# EAGLE library part CA56 (library CA56-12GWA)
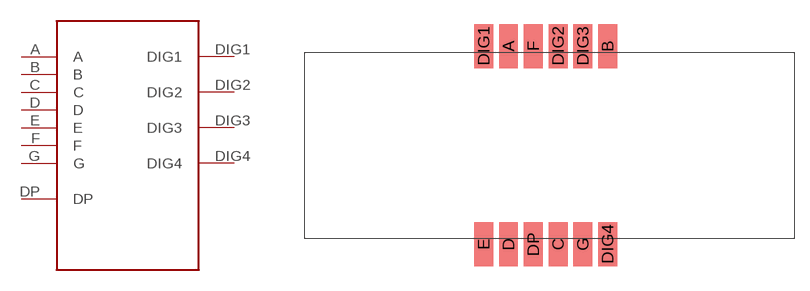
[diagram p0: symbol with the pads of CA56; footprint CA56]

Designator prefix -

## CA56  [CA56]
A  A
B  B
C  C
D  D
DIG1  DIG1
DIG2  DIG2
DIG3  DIG3
DIG4  DIG4
DP  DP
E  E
F  F
G  G

## Footprint CA56 (pad centres in mm)
smd 1.93 x 4.5: A 20.955,19.685; B 31.115,19.685; C 26.035,-0.635; D 20.955,-0.635; DIG1 18.415,19.685; DIG2 26.035,19.685; DIG3 28.575,19.685; DIG4 31.115,-0.635; DP 23.495,-0.635; E 18.415,-0.635; F 23.495,19.685; G 28.575,-0.635